# EAGLE library part 929870-01-09_4 (library 3M_929852_Connector)
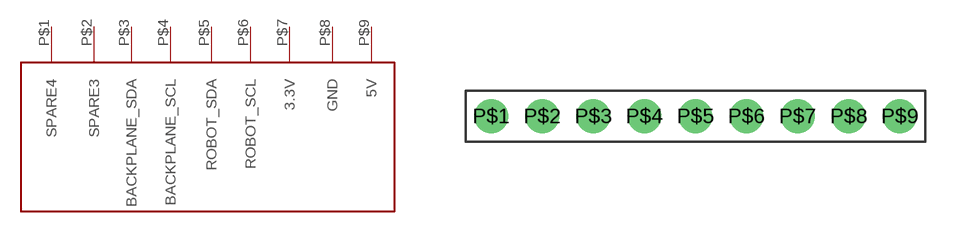
[diagram p3: symbol with the pads of 929852-01-09_1ROW; footprint 929852-01-09_1ROW]

Designator prefix -

## 929870-01-09_4  [929852-01-09_1ROW]
P$1  SPARE4
P$2  SPARE3
P$3  BACKPLANE_SDA
P$4  BACKPLANE_SCL
P$5  ROBOT_SDA
P$6  ROBOT_SCL
P$7  3.3V
P$8  GND
P$9  5V

## Footprint 929852-01-09_1ROW (pad centres in mm)
drill 0.889 pad 1.676: P$1 1.27,1.27; P$2 3.81,1.27; P$3 6.35,1.27; P$4 8.89,1.27; P$5 11.43,1.27; P$6 13.97,1.27; P$7 16.51,1.27; P$8 19.05,1.27; P$9 21.59,1.27